# Altium integrated library WE-TVS TVS Diode-Standard Series.IntLib: 6 symbols
Pins are listed as number, name and electrical type; pins without a type are passive.

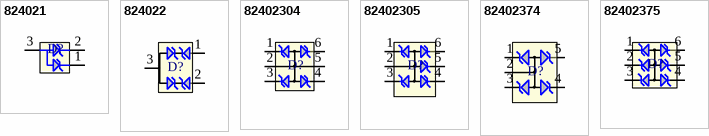
[diagram p0: symbols 824021 to 82402375]

## 824021
designator D?
TVS Diode WE-TVS-Standard, VRWM=5.0V; PartNumber: 824021; Reverse Stand Off Voltage: 5V; PackageReference: SOT23_3L; ComponentLink1Description: Manufacturer URL; ComponentLink1URL: http://www.we-online.com; ComponentLink2Description: Datasheet; ComponentLink2URL: http://katalog.we-online.de/kataloge/eisos/media/pdf/824021.pdf
footprint SOT23_3L (SOT23, 3-Leads, Body 2.9x2.4mm, Pitch 0.95mm)
pins: 1 I/O, 2 I/O, 3 GND

## 824022
designator D?
TVS Diode WE-TVS-Standard, VRWM=5.0V; PartNumber: 824022; Reverse Stand Off Voltage: 5V; PackageReference: SOT23_3L; ComponentLink1Description: Manufacturer URL; ComponentLink1URL: http://www.we-online.com; ComponentLink2Description: Datasheet; ComponentLink2URL: http://katalog.we-online.de/kataloge/eisos/media/pdf/824022.pdf
footprint SOT23_3L (SOT23, 3-Leads, Body 2.9x2.4mm, Pitch 0.95mm)
pins: 1 I/O, 2 I/O, 3 GND

## 82402304
designator D?
TVS Diode WE-TVS-Standard, VRWM=5.0V; PartNumber: 82402304; Reverse Stand Off Voltage: 5V; PackageReference: SOT23_6L; ComponentLink1Description: Manufacturer URL; ComponentLink1URL: http://www.we-online.com; ComponentLink2Description: Datasheet; ComponentLink2URL: http://katalog.we-online.de/kataloge/eisos/media/pdf/82402304.pdf
footprint SOT23_6L (SOT23_6L, 6-Leads, Body 3.60x2.9mm, Pitch 0.95mm)
pins: 1 C1, 2 A1, 3 C2, 4 C3, 5 A2, 6 C4

## 82402305
designator D?
TVS Diode WE-TVS-Standard, VRWM=5.0V; PartNumber: 82402305; Reverse Stand Off Voltage: 5V; PackageReference: SOT23_6L; ComponentLink1Description: Manufacturer URL; ComponentLink1URL: http://www.we-online.com; ComponentLink2Description: Datasheet; ComponentLink2URL: http://katalog.we-online.de/kataloge/eisos/media/pdf/82402305.pdf
footprint SOT23_6L (SOT23_6L, 6-Leads, Body 3.60x2.9mm, Pitch 0.95mm)
pins: 1 C1, 2 A1, 3 C2, 4 C3, 5 A2, 6 C4

## 82402374
designator D?
TVS Diode WE-TVS-Standard, VRWM=5.0V; PartNumber: 82402374; Reverse Stand Off Voltage: 5V; PackageReference: SC70-5L; ComponentLink1Description: Manufacturer URL; ComponentLink1URL: http://www.we-online.com; ComponentLink2Description: Datasheet; ComponentLink2URL: http://katalog.we-online.de/kataloge/eisos/media/pdf/82402374.pdf
footprint SC70-5L (SC70, 5-Leads, Body 2.20x2.7mm, Pitch 0.65mm)
pins: 1 C1, 2 A1, 3 C2, 4 C3, 5 C4

## 82402375
designator D?
TVS Diode WE-TVS-Standard, VRWM=5.0V; PartNumber: 82402375; Reverse Stand Off Voltage: 5V; PackageReference: SC70-6L; ComponentLink1Description: Manufacturer URL; ComponentLink1URL: http://www.we-online.com; ComponentLink2Description: Datasheet; ComponentLink2URL: http://katalog.we-online.de/kataloge/eisos/media/pdf/82402375.pdf
footprint SC70-6L (SC70, 6-Leads, Body 2.20x2.7mm, Pitch 0.65mm)
pins: 1 C1, 2 A1, 3 C2, 4 C3, 5 A2, 6 C4